# Altium footprint library Actives_Lib.PcbLib: 5 footprints
Each footprint in its own frame and in the unit in brackets; x right, y up, seen from the top. Pads: shape width x height; smd on the part's side, far side on the other; paste and mask are expansions set on the pad; w line width, h text height; cw(c..) or ccw(c..) is an arc to the next point about the centre after c.
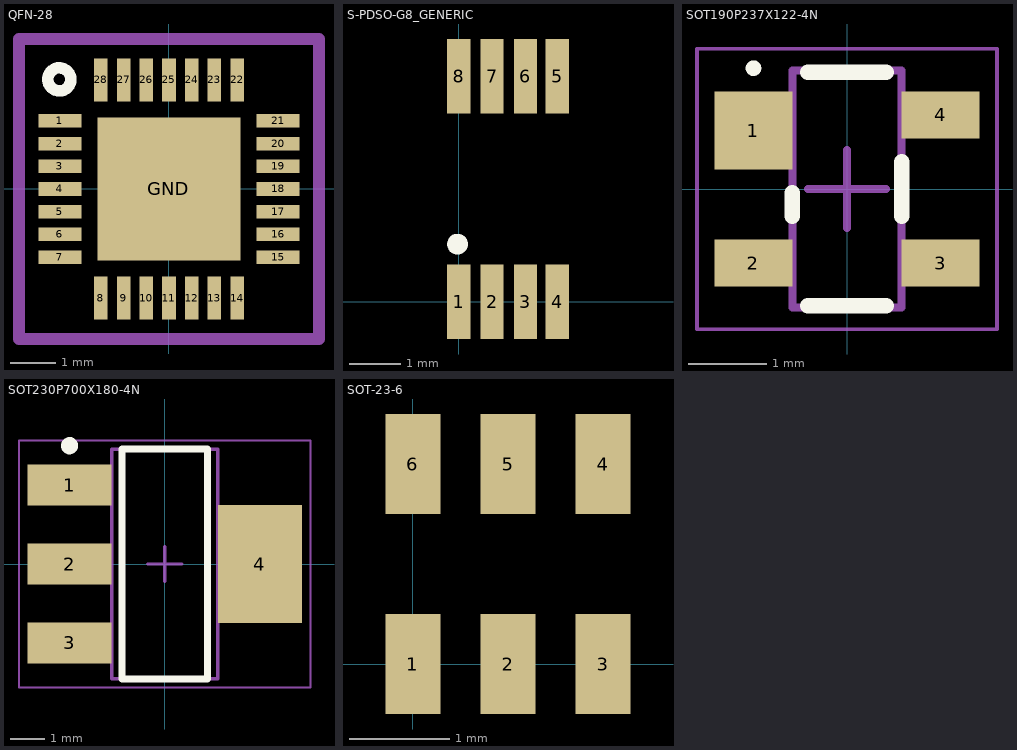
[diagram p0: the footprints below, top view; thin cyan lines are the x and y axes]

## QFN-28 [mm]
pads (29):
  rect 0.95x0.3 smd: 1(-2.4,1.5) 2(-2.4,1) 3(-2.4,0.5) 4(-2.4,0) 5(-2.4,-0.5) 6(-2.4,-1) 7(-2.4,-1.5) 15(2.4,-1.5) 16(2.4,-1) 17(2.4,-0.5) 18(2.4,0) 19(2.4,0.5) 20(2.4,1) 21(2.4,1.5)
  rect 0.3x0.95 smd: 8(-1.5,-2.4) 9(-1,-2.4) 10(-0.5,-2.4) 11(0,-2.4) 12(0.5,-2.4) 13(1,-2.4) 14(1.5,-2.4) 22(1.5,2.4) 23(1,2.4) 24(0.5,2.4) 25(0,2.4) 26(-0.5,2.4) 27(-1,2.4) 28(-1.5,2.4)
  rect 3.15x3.15 smd: GND(0,0)
Top Overlay:
  circle w0.254: c-2.413,2.413 r0.254
Mechanical 15:
  lines w0.254: -3.302,-3.302 -3.302,3.302 -2.865,3.302 -1.992,3.302 -1.556,3.302 1.937,3.302 3.302,3.302 3.302,1.619 3.302,-1.746 3.302,-3.302 1.651,-3.302 -1.651,-3.302 -3.302,-3.302
3D body: height 1, standoff 0, extent -2.54,-2.537 2.54,2.537
3D body: height 0.34, standoff -0.62, extent -2.5,3.2 -2.5,3.2

## S-PDSO-G8_GENERIC [mm]
pads (8):
  rect 0.45x1.45 smd: 1(0,0) 2(0.65,0) 3(1.3,0) 4(1.92,0) 5(1.92,4.4) 6(1.3,4.4) 7(0.65,4.4) 8(0,4.4)
Top Overlay:
  circle w0.254: c-0.025,1.125 r0.075
3D body "User Library-S-PDSO-G8.STEP": height 0.94, standoff -0.02, extent -0.522,-0.275 2.475,4.627

## SOT190P237X122-4N [mm] "SOT143, 4-Leads, Body 2,92x2,37mm, Pitch 1,90mm, IPC Medium Density"
height 1.22
pads (4):
  rect 1x1 smd: 1(-1.2,0.75)
  rect 1x0.6 smd: 2(-1.2,-0.95) 3(1.2,-0.95) 4(1.2,0.95)
Top Overlay:
  circle w0.1: c-1.2,1.55 r0.05
  lines w0.2: -0.7,-0.35 -0.7,-0.05 ; -0.5,-1.5 0.5,-1.5 ; -0.5,1.5 0.5,1.5 ; 0.7,-0.35 0.7,0.35
Mechanical 13:
  lines w0.1: -0.7,-1.52 -0.7,1.52 0.7,1.52 0.7,-1.52 -0.7,-1.52
Mechanical 15:
  lines w0.05: -1.925,-1.8 -1.925,1.8 1.925,1.8 1.925,-1.8 -1.925,-1.8
  lines w0.1: -0.5,0 0.5,0 ; 0,-0.5 0,0.5
3D body "SOT190P237X122-4N.step": height 1.22, standoff 0.13, extent -0.858,-1.52 0.858,1.52

## SOT230P700X180-4N [mm] "SOT223, 4-Leads, Body 6,50x7,00mm (avg), Pitch 2,30mm, IPC Medium Density"
height 1.8
pads (4):
  rect 2.45x1.2 smd: 1(-2.775,2.3) 2(-2.775,0) 3(-2.775,-2.3)
  rect 2.45x3.45 smd: 4(2.775,0)
Top Overlay:
  circle w0.25: c-2.775,3.45 r0.125
  lines w0.2: -1.25,-3.35 1.25,-3.35 1.25,3.35 -1.25,3.35 -1.25,-3.35
Mechanical 13:
  lines w0.1: -1.55,-3.35 1.55,-3.35 1.55,3.35 -1.55,3.35 -1.55,-3.35
Mechanical 15:
  lines w0.05: -4.25,-3.6 4.25,-3.6 4.25,3.6 -4.25,3.6 -4.25,-3.6
  lines w0.1: -0.5,0 0.5,0 ; 0,-0.5 0,0.5
3D body "SOT230P700X180-4N.step": height 1.8, standoff 0.02, extent -3.122,-3.35 3.122,3.35

## SOT-23-6 [mm] "R-PDSO-G6"
height 1
pads (6):
  rect 0.55x1 smd: 1(0,0) 2(0.95,0) 3(1.9,0) 4(1.9,2) 5(0.95,2) 6(0,2)